# EAGLE library part TRANSCEIVER (library ZMPLC)
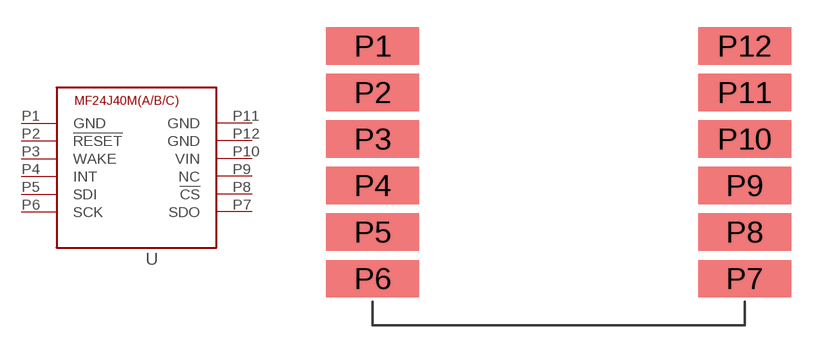
[diagram p11: symbol with the pads of TRANSCEIVER; footprint TRANSCEIVER]

Designator prefix -

## TRANSCEIVER  [TRANSCEIVER]
P1  GND  pwr
P2  !RESET!  in
P3  WAKE
P4  INT
P5  SDI
P6  SCK
P7  SDO
P8  !CS!
P9  NC  nc
P10  VIN  pwr
P11  GND  pwr
P12  GND  pwr

## Footprint TRANSCEIVER (pad centres in mm)
smd 5.08 x 2.032: P1 0,12.7; P2 0,10.16; P3 0,7.62; P4 0,5.08; P5 0,2.54; P6 0,0; P7 20.32,0; P8 20.32,2.54; P9 20.32,5.08; P10 20.32,7.62; P11 20.32,10.16; P12 20.32,12.7